# Altium schematic symbol library WP-SMBU.SchLib: 22 symbols
Pins are listed as number, name and electrical type; pins without a type are passive.

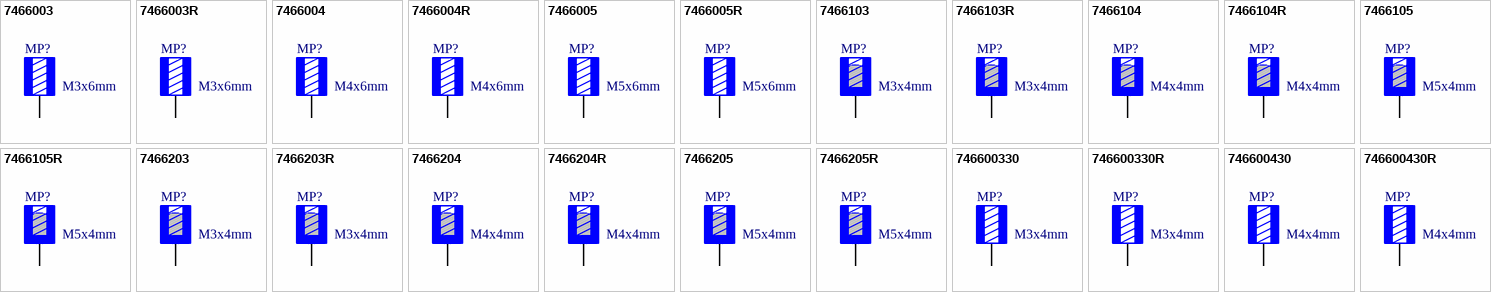
[diagram p0: symbols 7466003 to 746600430R]

## 7466003
designator MP?, comment M3x6mm
WP-SMBU SMT Internal through-hole thread, OD 7mm, M3x6mm, 50A; Manufacturer: Wurth Elektronik; Manufacturer Part Number: 7466003; Thread: M3; Surface: Tin; Thread Length: 6mm; ComponentLink1Description: Manufacturer; ComponentLink1URL: http://www.we-online.de; ComponentLink2Description: Datasheet; ComponentLink2URL: https://www.we-online.com/catalog/datasheet/7466003.pdf; Operating Temperature: -55 to +150degC; Height: 5mm; Material: Brass; Packaging: Bulk; Outer Diameter: 7mm; Mounting Technology: SMT; Rated Current: 50A; Published Date: June 2021; Size: OD 7mm
footprint 7466003
pins: 1

## 7466003R
designator MP?, comment M3x6mm
WP-SMBU SMT Internal through-hole thread, OD 7mm, M3x6mm, 50A; Manufacturer: Wurth Elektronik; Manufacturer Part Number: 7466003R; Thread: M3; Surface: Tin; Thread Length: 6mm; ComponentLink1Description: Manufacturer; ComponentLink1URL: http://www.we-online.de; ComponentLink2Description: Datasheet; ComponentLink2URL: https://www.we-online.com/catalog/datasheet/7466003R.pdf; Operating Temperature: -55 to +150degC; Height: 5mm; Material: Brass; Packaging: Tape and Reel; Outer Diameter: 7mm; Mounting Technology: SMT; Rated Current: 50A; Published Date: June 2021; Size: OD 7mm
footprint 7466003R (SMD with internal through-hole thread, M3-6mm)
pins: 1

## 7466004
designator MP?, comment M4x6mm
WP-SMBU SMT Internal through-hole thread, OD 7mm, M4x6mm, 50A; Manufacturer: Wurth Elektronik; Manufacturer Part Number: 7466004; Thread: M4; Surface: Tin; Thread Length: 6mm; ComponentLink1Description: Manufacturer; ComponentLink1URL: http://www.we-online.de; ComponentLink2Description: Datasheet; ComponentLink2URL: https://www.we-online.com/catalog/datasheet/7466004.pdf; Operating Temperature: -55 to +150degC; Height: 5mm; Material: Brass; Packaging: Bulk; Outer Diameter: 7mm; Mounting Technology: SMT; Rated Current: 50A; Published Date: June 2021; Size: OD 7mm
footprint 7466004
pins: 1

## 7466004R
designator MP?, comment M4x6mm
WP-SMBU SMT Internal through-hole thread, OD 7mm, M4x6mm, 50A; Manufacturer: Wurth Elektronik; Manufacturer Part Number: 7466004R; Thread: M4; Surface: Tin; Thread Length: 6mm; ComponentLink1Description: Manufacturer; ComponentLink1URL: http://www.we-online.de; ComponentLink2Description: Datasheet; ComponentLink2URL: https://www.we-online.com/catalog/datasheet/7466004R.pdf; Operating Temperature: -55 to +150degC; Height: 5mm; Material: Brass; Packaging: Tape and Reel; Outer Diameter: 7mm; Mounting Technology: SMT; Rated Current: 50A; Published Date: June 2021; Size: OD 7mm
footprint 7466004R (SMD with internal through-hole thread, M4-6mm)
pins: 1

## 7466005
designator MP?, comment M5x6mm
WP-SMBU SMT Internal through-hole thread, OD 9mm, M5x6mm, 70A; Manufacturer: Wurth Elektronik; Manufacturer Part Number: 7466005; Thread: M5; Surface: Tin; Thread Length: 6mm; ComponentLink1Description: Manufacturer; ComponentLink1URL: http://www.we-online.de; ComponentLink2Description: Datasheet; ComponentLink2URL: https://www.we-online.com/catalog/datasheet/7466005.pdf; Operating Temperature: -55 to +150degC; Height: 5mm; Material: Brass; Packaging: Bulk; Outer Diameter: 9mm; Mounting Technology: SMT; Rated Current: 70A; Published Date: June 2021; Size: OD 9mm
footprint 7466005
pins: 1

## 7466005R
designator MP?, comment M5x6mm
WP-SMBU SMT Internal through-hole thread, OD 9mm, M5x6mm, 70A; Manufacturer: Wurth Elektronik; Manufacturer Part Number: 7466005R; Thread: M5; Surface: Tin; Thread Length: 6mm; ComponentLink1Description: Manufacturer; ComponentLink1URL: http://www.we-online.de; ComponentLink2Description: Datasheet; ComponentLink2URL: https://www.we-online.com/catalog/datasheet/7466005R.pdf; Operating Temperature: -55 to +150degC; Height: 5mm; Material: Brass; Packaging: Tape and Reel; Outer Diameter: 9mm; Mounting Technology: SMT; Rated Current: 70A; Published Date: June 2021; Size: OD 9mm
footprint 7466005R (SMD with internal through-hole thread, M5-6mm)
pins: 1

## 7466103
designator MP?, comment M3x4mm
WP-SMBU SMT Internal blind-hole thread with pins, OD 7mm, M3x4mm, 50A; Manufacturer: Wurth Elektronik; Manufacturer Part Number: 7466103; Thread: M3; Surface: Tin; Thread Length: 4mm; ComponentLink1Description: Manufacturer; ComponentLink1URL: http://www.we-online.de; ComponentLink2Description: Datasheet; ComponentLink2URL: https://www.we-online.com/catalog/datasheet/7466103.pdf; Operating Temperature: -55 to +150degC; Height: 7mm; Material: Brass; Packaging: Bulk; Outer Diameter: 7mm; Mounting Technology: SMT; Rated Current: 50A; Published Date: June 2021; Size: OD 7mm
footprint 7466103
pins: 1

## 7466103R
designator MP?, comment M3x4mm
WP-SMBU SMT Internal blind-hole thread with pins, OD 7mm, M3x4mm, 50A; Manufacturer: Wurth Elektronik; Manufacturer Part Number: 7466103R; Thread: M3; Surface: Tin; Thread Length: 4mm; ComponentLink1Description: Manufacturer; ComponentLink1URL: http://www.we-online.de; ComponentLink2Description: Datasheet; ComponentLink2URL: https://www.we-online.com/catalog/datasheet/7466103R.pdf; Operating Temperature: -55 to +150degC; Height: 7mm; Material: Brass; Packaging: Tape and Reel; Outer Diameter: 7mm; Mounting Technology: SMT; Rated Current: 50A; Published Date: June 2021; Size: OD 7mm
footprint 7466103R (SMD with internal blind-hole thread with Pin, M3 - 4 mm)
pins: 1

## 7466104
designator MP?, comment M4x4mm
WP-SMBU SMT Internal blind-hole thread with pins, OD 7mm, M4x4mm, 50A; Manufacturer: Wurth Elektronik; Manufacturer Part Number: 7466104; Thread: M4; Surface: Tin; Thread Length: 4mm; ComponentLink1Description: Manufacturer; ComponentLink1URL: http://www.we-online.de; ComponentLink2Description: Datasheet; ComponentLink2URL: https://www.we-online.com/catalog/datasheet/7466104.pdf; Operating Temperature: -55 to +150degC; Height: 7mm; Material: Brass; Packaging: Bulk; Outer Diameter: 7mm; Mounting Technology: SMT; Rated Current: 50A; Published Date: June 2021; Size: OD 7mm
footprint 7466104
pins: 1

## 7466104R
designator MP?, comment M4x4mm
WP-SMBU SMT Internal blind-hole thread with pins, OD 7mm, M4x4mm, 50A; Manufacturer: Wurth Elektronik; Manufacturer Part Number: 7466104R; Thread: M4; Surface: Tin; Thread Length: 4mm; ComponentLink1Description: Manufacturer; ComponentLink1URL: http://www.we-online.de; ComponentLink2Description: Datasheet; ComponentLink2URL: https://www.we-online.com/catalog/datasheet/7466104R.pdf; Operating Temperature: -55 to +150degC; Height: 7mm; Material: Brass; Packaging: Tape and Reel; Outer Diameter: 7mm; Mounting Technology: SMT; Rated Current: 50A; Published Date: June 2021; Size: OD 7mm
footprint 7466104R (SMD with internal blind-hole thread with Pin, M4 - 4 mm)
pins: 1

## 7466105
designator MP?, comment M5x4mm
WP-SMBU SMT Internal blind-hole thread with pins, OD 9mm, M5x4mm, 70A; Manufacturer: Wurth Elektronik; Manufacturer Part Number: 7466105; Thread: M5; Surface: Tin; Thread Length: 4mm; ComponentLink1Description: Manufacturer; ComponentLink1URL: http://www.we-online.de; ComponentLink2Description: Datasheet; ComponentLink2URL: https://www.we-online.com/catalog/datasheet/7466105.pdf; Operating Temperature: -55 to +150degC; Height: 7mm; Material: Brass; Packaging: Bulk; Outer Diameter: 9mm; Mounting Technology: SMT; Rated Current: 70A; Published Date: June 2021; Size: OD 9mm
footprint 7466105
pins: 1

## 7466105R
designator MP?, comment M5x4mm
WP-SMBU SMT Internal blind-hole thread with pins, OD 9mm, M5x4mm, 70A; Manufacturer: Wurth Elektronik; Manufacturer Part Number: 7466105R; Thread: M5; Surface: Tin; Thread Length: 4mm; ComponentLink1Description: Manufacturer; ComponentLink1URL: http://www.we-online.de; ComponentLink2Description: Datasheet; ComponentLink2URL: https://www.we-online.com/catalog/datasheet/7466105R.pdf; Operating Temperature: -55 to +150degC; Height: 7mm; Material: Brass; Packaging: Tape and Reel; Outer Diameter: 9mm; Mounting Technology: SMT; Rated Current: 70A; Published Date: June 2021; Size: OD 9mm
footprint 7466105R (SMD with internal blind-hole thread with Pin, M5 - 4 mm)
pins: 1

## 7466203
designator MP?, comment M3x4mm
WP-SMBU SMT Internal blind-hole thread, OD 7mm, M3x4mm, 50A; Manufacturer: Wurth Elektronik; Manufacturer Part Number: 7466203; Thread: M3; Surface: Tin; Thread Length: 4mm; ComponentLink1Description: Manufacturer; ComponentLink1URL: http://www.we-online.de; ComponentLink2Description: Datasheet; ComponentLink2URL: https://www.we-online.com/catalog/datasheet/7466203.pdf; Operating Temperature: -55 to +150degC; Height: 7mm; Material: Brass; Packaging: Bulk; Outer Diameter: 7mm; Mounting Technology: SMT; Rated Current: 50A; Published Date: June 2021; Size: OD 7mm
footprint 7466203
pins: 1

## 7466203R
designator MP?, comment M3x4mm
WP-SMBU SMT Internal blind-hole thread, OD 7mm, M3x4mm, 50A; Manufacturer: Wurth Elektronik; Manufacturer Part Number: 7466203R; Thread: M3; Surface: Tin; Thread Length: 4mm; ComponentLink1Description: Manufacturer; ComponentLink1URL: http://www.we-online.de; ComponentLink2Description: Datasheet; ComponentLink2URL: https://www.we-online.com/catalog/datasheet/7466203R.pdf; Operating Temperature: -55 to +150degC; Height: 7mm; Material: Brass; Packaging: Tape and Reel; Outer Diameter: 7mm; Mounting Technology: SMT; Rated Current: 50A; Published Date: June 2021; Size: OD 7mm
footprint 7466203R (SMD with internal blind-hole thread, M3 - 4 mm)
pins: 1

## 7466204
designator MP?, comment M4x4mm
WP-SMBU SMT Internal blind-hole thread, OD 7mm, M4x4mm, 50A; Manufacturer: Wurth Elektronik; Manufacturer Part Number: 7466204; Thread: M4; Surface: Tin; Thread Length: 4mm; ComponentLink1Description: Manufacturer; ComponentLink1URL: http://www.we-online.de; ComponentLink2Description: Datasheet; ComponentLink2URL: https://www.we-online.com/catalog/datasheet/7466204.pdf; Operating Temperature: -55 to +150degC; Height: 7mm; Material: Brass; Packaging: Bulk; Outer Diameter: 7mm; Mounting Technology: SMT; Rated Current: 50A; Published Date: June 2021; Size: OD 7mm
footprint 7466204
pins: 1

## 7466204R
designator MP?, comment M4x4mm
WP-SMBU SMT Internal blind-hole thread, OD 7mm, M4x4mm, 50A; Manufacturer: Wurth Elektronik; Manufacturer Part Number: 7466204R; Thread: M4; Surface: Tin; Thread Length: 4mm; ComponentLink1Description: Manufacturer; ComponentLink1URL: http://www.we-online.de; ComponentLink2Description: Datasheet; ComponentLink2URL: https://www.we-online.com/catalog/datasheet/7466204R.pdf; Operating Temperature: -55 to +150degC; Height: 7mm; Material: Brass; Packaging: Tape and Reel; Outer Diameter: 7mm; Mounting Technology: SMT; Rated Current: 50A; Published Date: June 2021; Size: OD 7mm
footprint 7466204R (SMD with internal blind-hole thread, M4 - 4 mm)
pins: 1

## 7466205
designator MP?, comment M5x4mm
WP-SMBU SMT Internal blind-hole thread, OD 9mm, M5x4mm, 70A; Manufacturer: Wurth Elektronik; Manufacturer Part Number: 7466205; Thread: M5; Surface: Tin; Thread Length: 4mm; ComponentLink1Description: Manufacturer; ComponentLink1URL: http://www.we-online.de; ComponentLink2Description: Datasheet; ComponentLink2URL: https://www.we-online.com/catalog/datasheet/7466205.pdf; Operating Temperature: -55 to +150degC; Height: 7mm; Material: Brass; Packaging: Bulk; Outer Diameter: 9mm; Mounting Technology: SMT; Rated Current: 70A; Published Date: June 2021; Size: OD 9mm
footprint 7466205
pins: 1

## 7466205R
designator MP?, comment M5x4mm
WP-SMBU SMT Internal blind-hole thread, OD 9mm, M5x4mm, 70A; Manufacturer: Wurth Elektronik; Manufacturer Part Number: 7466205R; Thread: M5; Surface: Tin; Thread Length: 4mm; ComponentLink1Description: Manufacturer; ComponentLink1URL: http://www.we-online.de; ComponentLink2Description: Datasheet; ComponentLink2URL: https://www.we-online.com/catalog/datasheet/7466205R.pdf; Operating Temperature: -55 to +150degC; Height: 7mm; Material: Brass; Packaging: Tape and Reel; Outer Diameter: 9mm; Mounting Technology: SMT; Rated Current: 70A; Published Date: June 2021; Size: OD 9mm
footprint 7466205R (SMD with internal blind-hole thread, M5 - 4 mm)
pins: 1

## 746600330
designator MP?, comment M3x4mm
WP-SMBU SMT Internal through-hole thread, OD 7mm, M3x4mm, 50A; Manufacturer: Wurth Elektronik; Manufacturer Part Number: 746600330; Thread: M3; Surface: Tin; Thread Length: 4mm; ComponentLink1Description: Manufacturer; ComponentLink1URL: http://www.we-online.de; ComponentLink2Description: Datasheet; ComponentLink2URL: https://www.we-online.com/catalog/datasheet/746600330.pdf; Operating Temperature: -55 to +150degC; Height: 3mm; Material: Brass; Packaging: Bulk; Outer Diameter: 7mm; Mounting Technology: SMT; Rated Current: 50A; Published Date: June 2021; Size: OD 7mm
footprint 746600330
pins: 1

## 746600330R
designator MP?, comment M3x4mm
WP-SMBU SMT Internal through-hole thread, OD 7mm, M3x4mm, 50A; Manufacturer: Wurth Elektronik; Manufacturer Part Number: 746600330R; Thread: M3; Surface: Tin; Thread Length: 4mm; ComponentLink1Description: Manufacturer; ComponentLink1URL: http://www.we-online.de; ComponentLink2Description: Datasheet; ComponentLink2URL: https://www.we-online.com/catalog/datasheet/746600330R.pdf; Operating Temperature: -55 to +150degC; Height: 3mm; Material: Brass; Packaging: Tape and Reel; Outer Diameter: 7mm; Mounting Technology: SMT; Rated Current: 50A; Published Date: June 2021; Size: OD 7mm
footprint 746600330R (SMD with internal through-hole thread, M3-4mm)
pins: 1

## 746600430
designator MP?, comment M4x4mm
WP-SMBU SMT Internal through-hole thread, OD 7mm, M4x4mm, 50A; Manufacturer: Wurth Elektronik; Manufacturer Part Number: 746600430; Thread: M4; Surface: Tin; Thread Length: 4mm; ComponentLink1Description: Manufacturer; ComponentLink1URL: http://www.we-online.de; ComponentLink2Description: Datasheet; ComponentLink2URL: https://www.we-online.com/catalog/datasheet/746600430.pdf; Operating Temperature: -55 to +150degC; Height: 3mm; Material: Brass; Packaging: Bulk; Outer Diameter: 7mm; Mounting Technology: SMT; Rated Current: 50A; Published Date: June 2021; Size: OD 7mm
footprint 746600430
pins: 1

## 746600430R
designator MP?, comment M4x4mm
WP-SMBU SMT Internal through-hole thread, OD 7mm, M4x4mm, 50A; Manufacturer: Wurth Elektronik; Manufacturer Part Number: 746600430R; Thread: M4; Surface: Tin; Thread Length: 4mm; ComponentLink1Description: Manufacturer; ComponentLink1URL: http://www.we-online.de; ComponentLink2Description: Datasheet; ComponentLink2URL: https://www.we-online.com/catalog/datasheet/746600430R.pdf; Operating Temperature: -55 to +150degC; Height: 3mm; Material: Brass; Packaging: Tape and Reel; Outer Diameter: 7mm; Mounting Technology: SMT; Rated Current: 50A; Published Date: June 2021; Size: OD 7mm
footprint 746600430R (SMD with internal through-hole thread, M4-4mm)
pins: 1